# Altium schematic symbol library schmaticSMDv1.SchLib: 102 symbols (part 2 of 4)
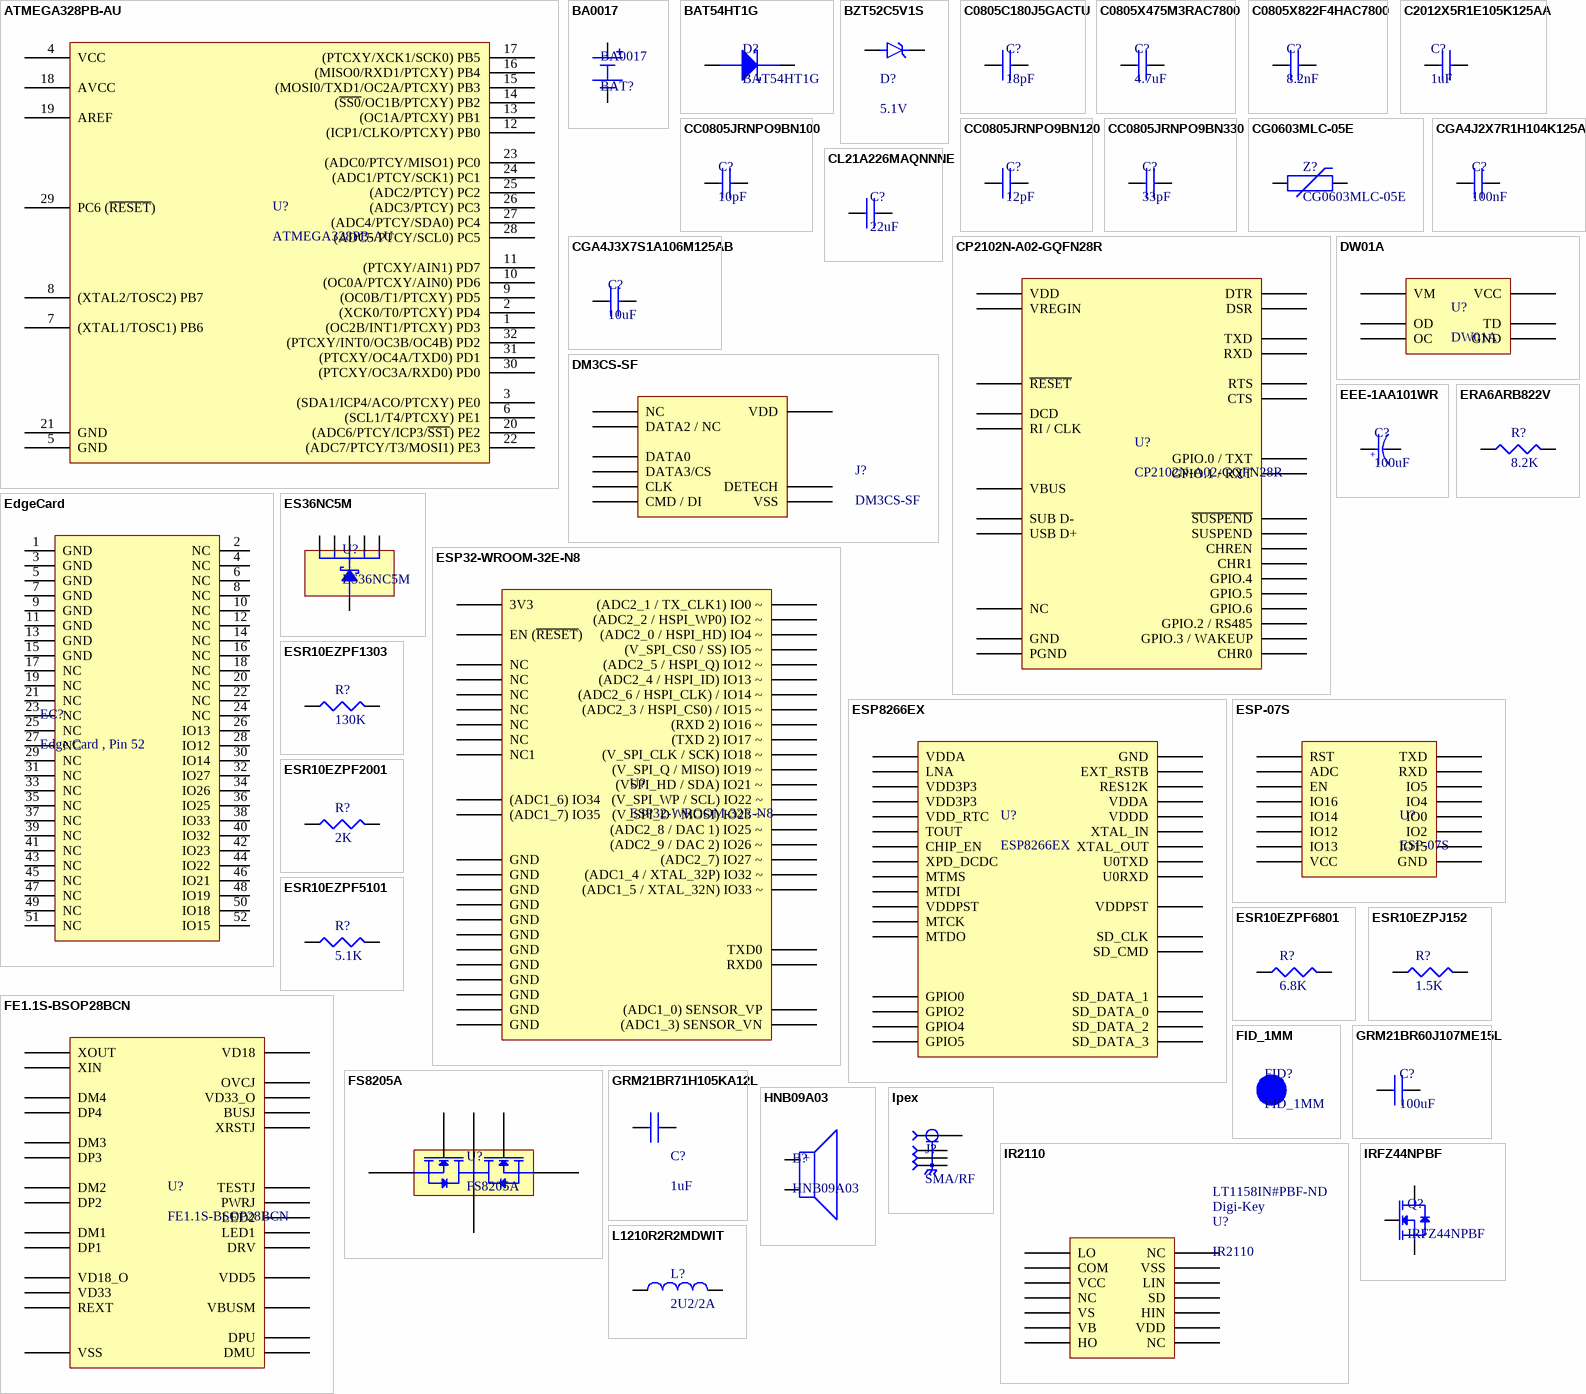
[diagram p4: symbols ATMEGA328PB-AU to L1210R2R2MDWIT]

## CC0805JRNPO9BN330
designator C?, comment 33pF
Cap Ceramic 33pF 50V C0G 5% SMD 0805 125C T/R; Manufacturer: Yageo; Manufacturer Part Number: CC0805JRNPO9BN330; RoHS: Yes; Category: Ceramic Capacitors; Stock 1: 150073; Pricing 1: 1=0.10000, 10=0.06900, 50=0.03760, 100=0.03060, 500=0.02188, 1000=0.01719 (USD); Mount: Surface Mount; Case/Package: 0805; Material: Ceramic; Case Code (Imperial): 0805; Case Code (Metric): 2012; Dielectric Material: Ceramic; Min Operating Temperature: -55°C; Max Operating Temperature: 125°C; Capacitance: 33pF; Tolerance: 5%; Dielectric: C0G; Voltage: 50V; Series: CC; Package Quantity: 1; Voltage Rating: 50V; Voltage Rating (DC): 50V; Packaging: Tape and Reel; Termination: SMD/SMT; Resistor Type: Ceramic; Length: 2mm; Width: 0.049inch; Height: 0.6mm; Depth: 1.25mm; Thickness: 0.024inch; Radiation Hardening: No; Lead Free: Lead Free; RoHS Compliant: Yes; ComponentLink1URL: https://datasheet.ciiva.com/8033/1443161-8033944.pdf?src-supplier=Element14; ComponentLink1Description: https://datasheet.ciiva.com/8033/1443161-8033944.pdf?src-supplier=Element14; ComponentLink2URL: https://datasheet.ciiva.com/8033/1443161-8033942.pdf?src-supplier=Element14; ComponentLink2Description: https://datasheet.ciiva.com/8033/1443161-8033942.pdf?src-supplier=Element14; ComponentLink3URL: https://datasheet.ciiva.com/144/mlccorderingcode-144779.pdf?src-supplier=Digi-Key; ComponentLink3Description: https://datasheet.ciiva.com/144/mlccorderingcode-144779.pdf?src-supplier=Digi-Key; ComponentLink4URL: https://datasheet.ciiva.com/144/mlccorderingcode-144778.pdf?src-supplier=Digi-Key; ComponentLink4Description: https://datasheet.ciiva.com/144/mlccorderingcode-144778.pdf?src-supplier=Digi-Key; ComponentLink5URL: https://datasheet.ciiva.com/144/mlccorderingcode-144780.pdf?src-supplier=Digi-Key; ComponentLink5Description: https://datasheet.ciiva.com/144/mlccorderingcode-144780.pdf?src-supplier=Digi-Key; ComponentLink6URL: https://datasheet.ciiva.com/11464/upy-gp-np0-16v-to-50v-8-11464747.pdf?src-supplier=Avnet; ComponentLink6Description: https://datasheet.ciiva.com/11464/upy-gp-np0-16v-to-50v-8-11464747.pdf?src-supplier=Avnet; ComponentLink7URL: https://datasheet.ciiva.com/29241/445349-da-01-en-kerko-chip-0805-np0-33pf-5proz-50v-g-29241975.pdf?src-supplier=Conrad; ComponentLink7Description: https://datasheet.ciiva.com/29241/445349-da-01-en-kerko-chip-0805-np0-33pf-5proz-50v-g-29241975.pdf?src-supplier=Conrad; Supplier 1: Digi-Key; Supplier Part Number 1: 311-1105-1-ND
footprint C0805
pins: 1, 2

## CG0603MLC-05E
designator Z?
ESD Suppressor Multilayer Varistor 5V Automotive 2-Pin Case 0603(1608Metric) T/R; Manufacturer: Bourns; Capacitance: 0.5pF; Voltage Rating (AC): 8V; Number of Channels: 1; Clamping Voltage: 20V; Current Rating: 50nA; Turn-On Delay Time: 1ns; Element Configuration: Single; Supplier 1: Digi-Key; Manufacturer Part Number: CG0603MLC-05E; RoHS: Yes; Category: Varistors; Stock 1: 69840; Pricing 1: 5000=0.08840, 10000=0.08060, 25000=0.07540, 50000=0.06916 (USD); Case/Package: 0603; Number of Pins: 2; Case Code (Imperial): 0603; Case Code (Metric): 1608; Contact Plating: Tin; Min Operating Temperature: -40°C; Max Operating Temperature: 85°C; Voltage Rating (DC): 5V; Operating Supply Voltage: 5V; Package Quantity: 1; Packaging: Tape and Reel; Termination: SMD/SMT; Voltage: 5V; Number of Circuits: 1; Max Voltage Rating (DC): 5V; Working Voltage: 5V; Leakage Current: 50nA; Series: MLC; Length: 1.6mm; Width: 0.8mm; Depth: 0.8mm; Thickness: 0.8mm; Radiation Hardening: No; REACH SVHC: No SVHC; RoHS Compliant: Yes; ComponentLink1URL: https://datasheet.ciiva.com/27747/1163231-27747629.pdf?src-supplier=Jameco; ComponentLink1Description: https://datasheet.ciiva.com/27747/1163231-27747629.pdf?src-supplier=Jameco; ComponentLink2URL: https://datasheet.ciiva.com/30070/mlc-30070503.pdf?src-supplier=Onlinecomponents.com; ComponentLink2Description: https://datasheet.ciiva.com/30070/mlc-30070503.pdf?src-supplier=Onlinecomponents.com; ComponentLink3URL: https://datasheet.ciiva.com/6991/mlc-6991832.pdf?src-supplier=Digi-Key; ComponentLink3Description: https://datasheet.ciiva.com/6991/mlc-6991832.pdf?src-supplier=Digi-Key; ComponentLink4URL: https://datasheet.ciiva.com/6991/mlc-6991834.pdf?src-supplier=Digi-Key; ComponentLink4Description: https://datasheet.ciiva.com/6991/mlc-6991834.pdf?src-supplier=Digi-Key; ComponentLink5URL: https://datasheet.ciiva.com/6991/mlc-6991836.pdf?src-supplier=Digi-Key; ComponentLink5Description: https://datasheet.ciiva.com/6991/mlc-6991836.pdf?src-supplier=Digi-Key; ComponentLink6URL: https://datasheet.ciiva.com/1278/1785244-1278701.pdf?src-supplier=Element14; ComponentLink6Description: https://datasheet.ciiva.com/1278/1785244-1278701.pdf?src-supplier=Element14; ComponentLink7URL: https://datasheet.ciiva.com/22696/1785244-22696318.pdf?src-supplier=Element14; ComponentLink7Description: https://datasheet.ciiva.com/22696/1785244-22696318.pdf?src-supplier=Element14; ComponentLink8URL: https://datasheet.ciiva.com/25958/mlc-25958222.pdf?src-supplier=Avnet+Europe; ComponentLink8Description: https://datasheet.ciiva.com/25958/mlc-25958222.pdf?src-supplier=Avnet+Europe; ComponentLink9URL: https://datasheet.ciiva.com/8084/mlc-8084047.pdf?src-supplier=Avnet; ComponentLink9Description: https://datasheet.ciiva.com/8084/mlc-8084047.pdf?src-supplier=Avnet; Supplier Part Number 1: CG0603MLC-05ETR-ND
footprint R0603
pins: 1, 2

## CGA4J2X7R1H104K125AM
designator C?, comment 100nF
Cap Ceramic 0.1uF 50V X7R 10% Pad SMD 0805 125°C Automotive T/R; Manufacturer: TDK; Manufacturer Part Number: CGA4J2X7R1H104K125AM; Supplier 1: Digi-Key; RoHS: Yes; Category: Ceramic Capacitors; Stock 1: 4940; Pricing 1: 1=0.20000, 10=0.14200, 50=0.08080, 100=0.06700, 500=0.04696, 1000=0.03888 (USD); Mount: Surface Mount; Case/Package: 0805; Case Code (Metric): 2012; Case Code (Imperial): 0805; Weight: 0.000194oz; Min Operating Temperature: -55°C; Max Operating Temperature: 125°C; Capacitance: 100nF; Voltage Rating: 50V; Tolerance: 10%; Packaging: Tape and Reel; Termination: SMD/SMT; Series: CGA; Package Quantity: 1; Voltage Rating (DC): 50V; Dielectric: X7R; Resistor Type: Ceramic; Features: Soft Termination; Length: 0.079inch; Width: 0.049inch; Height: 1.25mm; Thickness: 0.057inch; Depth: 1.25mm; Ratings: AEC-Q200; RoHS Compliant: Yes; ComponentLink1URL: http://components.arrow.com/part/dataview/0323_06888403?src-supplier=Arrow+Europe; ComponentLink1Description: http://components.arrow.com/part/dataview/0323_06888403?src-supplier=Arrow+Europe; ComponentLink2URL: https://product.tdk.com/info/en/catalog/datasheets/mlcc_automotive_openmode_en.pdf?src-supplier=Digi-Key; ComponentLink2Description: https://product.tdk.com/info/en/catalog/datasheets/mlcc_automotive_openmode_en.pdf?src-supplier=Digi-Key; ComponentLink3URL: https://product.tdk.com/info/en/documents/chara_sheet/CGA4J2X7R1H104K125AM.pdf?src-supplier=Digi-Key; ComponentLink3Description: https://product.tdk.com/info/en/documents/chara_sheet/CGA4J2X7R1H104K125AM.pdf?src-supplier=Digi-Key; ComponentLink4URL: http://components.arrow.com/part/dataview/57437351S460182N1165?src-supplier=Arrow+Electronics; ComponentLink4Description: http://components.arrow.com/part/dataview/57437351S460182N1165?src-supplier=Arrow+Electronics; Supplier Part Number 1: 445-6958-1-ND
footprint C0805
pins: 1, 2

## CGA4J3X7S1A106M125AB
designator C?, comment 10uF
Cap Ceramic 10uF 10V X7S 20% Pad SMD 0805 125°C Low ESR Automotive T/R; Manufacturer: TDK; Manufacturer Part Number: CGA4J3X7S1A106M125AB; RoHS: Yes; Category: Ceramic Capacitors; Stock 1: 13960; Pricing 1: 1=0.41000, 10=0.29000, 50=0.21920, 100=0.19090, 500=0.14140, 1000=0.12019 (USD); Mount: Surface Mount; Case/Package: 0805; Case Code (Metric): 2012; Case Code (Imperial): 0805; Weight: 0.000194oz; Min Operating Temperature: -55°C; Max Operating Temperature: 125°C; Packaging: Tape and Reel; Capacitance: 10uF; Voltage Rating: 10V; Tolerance: 20%; Dielectric: X7S; Termination: SMD/SMT; Voltage Rating (DC): 10V; Package Quantity: 2000; Length: 0.079inch; Width: 1.25mm; Height: 1.25mm; Thickness: 0.057inch; Ratings: AEC-Q200; RoHS Compliant: Yes; ComponentLink1URL: http://www.mouser.com/ds/2/400/lcc_automotive_general_en-843974.pdf?src-supplier=Mouser; ComponentLink1Description: http://www.mouser.com/ds/2/400/lcc_automotive_general_en-843974.pdf?src-supplier=Mouser; ComponentLink2URL: https://product.tdk.com/info/en/documents/chara_sheet/CGA4J3X7S1A106M125AB.pdf?src-supplier=Digi-Key; ComponentLink2Description: https://product.tdk.com/info/en/documents/chara_sheet/CGA4J3X7S1A106M125AB.pdf?src-supplier=Digi-Key; Supplier 1: Digi-Key; Supplier Part Number 1: 445-16115-1-ND
footprint C0805
pins: 1, 2

## CL21A226MAQNNNE
designator C?, comment 22uF
CAP CER 22UF 25V X5R 0805; Manufacturer: Samsung; Manufacturer Part Number: CL21A226MAQNNNE; Tolerance: 20%; RoHS: Yes; Category: Ceramic Capacitors; Stock 1: 1815620; Pricing 1: 20=0.02360, 200=0.01840, 600=0.01610, 2000=0.01440, 10000=0.01370, 20000=0.01320 (USD); Mount: Surface Mount; Case/Package: 0805; Case Code (Metric): 2012; Case Code (Imperial): 0805; Contact Plating: Tin; Min Operating Temperature: -55°C; Max Operating Temperature: 85°C; Package Quantity: 1; Packaging: Tape and Reel; Capacitance: 22uF; Voltage Rating: 25V; Dielectric: X5R; Termination: Wraparound; Series: CL; Construction: Flat; Length: 2mm; Width: 0.049inch; Thickness: 0.055inch; Depth: 1.25mm; RoHS Compliant: Yes; ComponentLink1URL: https://datasheet.ciiva.com/25724/cl21a226maqnnne-25724468.pdf?src-supplier=Digi-Key; ComponentLink1Description: https://datasheet.ciiva.com/25724/cl21a226maqnnne-25724468.pdf?src-supplier=Digi-Key; Supplier 1: LCSC; Supplier Part Number 1: C45783
footprint C0805
pins: 1, 2

## CP2102N-A02-GQFN28R
designator U?
Full Speed USB to UART Bridge USB 2.0 3.3V T/R Automotive 28-Pin QFN EP; Manufacturer: Silicon Labs; Manufacturer Part Number: CP2102N-A02-GQFN28R; RoHS: Yes; Category: USB Interface ICs; Pricing 1: 1=2.27000, 10=2.27000, 50=2.27000, 100=2.27000, 1000=2.27000, 10000=2.27000 (USD); Supplier 1: Mouser; Supplier Part Number 1: 634-CP2102NA02QFN28R
footprint WFQFN-28
pins: 1 DCD, 2 RI / CLK, 3 GND, 4 USB D+, 5 SUB D-, 6 VDD, 7 VREGIN, 8 VBUS, 9 ~{RESET}, 10 NC, 11 ~{SUSPEND}, 12 SUSPEND, 13 CHREN, 14 CHR1, 15 CHR0, 16 GPIO.3 / WAKEUP, 17 GPIO.2 / RS485, 18 GPIO.1 / RXT, 19 GPIO.0 / TXT, 20 GPIO.6, 21 GPIO.5, 22 GPIO.4, 23 CTS, 24 RTS, 25 RXD, 26 TXD, 27 DSR, 28 DTR, 29 PGND

## DM3CS-SF
designator J?
Connector, Memory, Micro Sd, Hinged Rohs Compliant: Yes; Manufacturer: Hirose; Supplier 1: RSComponents; Manufacturer Part Number: DM3CS-SF; RoHS: Yes; Category: Memory Connectors; Stock 1: 50; Pricing 1: 5=1.36800, 125=1.23200, 375=0.98800, 1000=0.68800, 2000=0.50800 (GBP); ComponentLink1URL: https://datasheet.ciiva.com/683/e60900232-683360.pdf?src-supplier=Digi-Key; ComponentLink1Description: https://datasheet.ciiva.com/683/e60900232-683360.pdf?src-supplier=Digi-Key; ComponentLink2URL: https://datasheet.ciiva.com/16434/e60900232-16434058.pdf?src-supplier=Future+Electronics; ComponentLink2Description: https://datasheet.ciiva.com/16434/e60900232-16434058.pdf?src-supplier=Future+Electronics; ComponentLink3URL: https://datasheet.ciiva.com/4581/e60900232-38395-4581034.pdf?src-supplier=Mouser; ComponentLink3Description: https://datasheet.ciiva.com/4581/e60900232-38395-4581034.pdf?src-supplier=Mouser; ComponentLink4URL: https://datasheet.ciiva.com/7651/1465328-7651895.pdf?src-supplier=Element14; ComponentLink4Description: https://datasheet.ciiva.com/7651/1465328-7651895.pdf?src-supplier=Element14; ComponentLink5URL: https://datasheet.ciiva.com/3122/e60900232-3122536.pdf?src-supplier=Avnet; ComponentLink5Description: https://datasheet.ciiva.com/3122/e60900232-3122536.pdf?src-supplier=Avnet; ComponentLink6URL: https://datasheet.ciiva.com/683/e60900232-683359.pdf?src-supplier=Digi-Key; ComponentLink6Description: https://datasheet.ciiva.com/683/e60900232-683359.pdf?src-supplier=Digi-Key; ComponentLink7URL: https://datasheet.ciiva.com/683/e60900232-683361.pdf?src-supplier=Digi-Key; ComponentLink7Description: https://datasheet.ciiva.com/683/e60900232-683361.pdf?src-supplier=Digi-Key; Supplier Part Number 1: 7726787
footprint GCT_MEM2051-00-195-00-A
pins: 1 DATA2 / NC, 2 DATA3/CS, 3 CMD / DI, 4 VDD, 5 CLK, 6 VSS, 7 DATA0, 8 NC, 9 DETECH

## DW01A
designator U?
SOT-23-6L Battery Management ICs ROHS; Manufacturer: TF; Manufacturer Part Number: DW01A; RoHS: No; Category: Uncategorized; Stock 1: 1180; Pricing 1: 20=0.03790, 200=0.03100, 600=0.02760, 3000=0.02500, 9000=0.02290, 21000=0.02190 (USD); Supplier 1: LCSC; Supplier Part Number 1: C436931
footprint SOT23-6
pins: 1 OD, 2 VM, 3 OC, 4 TD, 5 VCC, 6 GND

## EdgeCard
designator EC?, comment Edge Card , Pin 52
footprint Edge Connector
pins: 1 GND, 2 NC, 3 GND, 4 NC, 5 GND, 6 NC, 7 GND, 8 NC, 9 GND, 10 NC, 11 GND, 12 NC, 13 GND, 14 NC, 15 GND, 16 NC, 17 NC, 18 NC, 19 NC, 20 NC, 21 NC, 22 NC, 23 NC, 24 NC, 25 NC, 26 IO13, 27 NC, 28 IO12, 29 NC, 30 IO14, 31 NC, 32 IO27, 33 NC, 34 IO26, 35 NC, 36 IO25, 37 NC, 38 IO33, 39 NC, 40 IO32, 41 NC, 42 IO23, 43 NC, 44 IO22, 45 NC, 46 IO21, 47 NC, 48 IO19, 49 NC, 50 IO18, 51 NC, 52 IO15

## EEE-1AA101WR
designator C?, comment 100uF
Cap Aluminum 100uF 10V 20% (5 X 5.4mm) SMD 50mA 1000 hr 85°C T/R; Manufacturer: Panasonic; Manufacturer Part Number: EEE-1AA101WR; Life (Hours): 1000Hour; Supplier 1: RSComponents; RoHS: Yes; Category: Aluminum Electrolytic Capacitors; Stock 1: 1; Pricing 1: 1000=0.07800, 3000=0.07400 (USD); Mount: Surface Mount,PCB; Case/Package: Radial; Contact Plating: Tin; Min Operating Temperature: -40°C; Max Operating Temperature: 85°C; Capacitance: 100uF; Tolerance: 20%; Ripple Current: 50mA; Voltage Rating: 10V; Packaging: Tape and Reel; Package Quantity: 1; Voltage Rating (DC): 10V; Termination: SMD/SMT; Ripple Current (AC): 50mA; Series: S; Construction: Cylindrical; Diameter: 5mm; Length: 5.5mm; Height: 5.4mm; Height - Seated (Max): 0.213inch; Radiation Hardening: No; Lead Free: Lead Free; RoHS Compliant: Yes; REACH SVHC: Unknown; ComponentLink1URL: https://datasheet.ciiva.com/26945/getdatasheetpartid-169213-26945071.pdf?src-supplier=Verical; ComponentLink1Description: https://datasheet.ciiva.com/26945/getdatasheetpartid-169213-26945071.pdf?src-supplier=Verical; ComponentLink2URL: https://datasheet.ciiva.com/24027/aba0000ce2-40801-24027541.pdf?src-supplier=Mouser; ComponentLink2Description: https://datasheet.ciiva.com/24027/aba0000ce2-40801-24027541.pdf?src-supplier=Mouser; ComponentLink3URL: https://datasheet.ciiva.com/14598/70255710-14598233.pdf?src-supplier=Allied+Electronics; ComponentLink3Description: https://datasheet.ciiva.com/14598/70255710-14598233.pdf?src-supplier=Allied+Electronics; ComponentLink4URL: https://datasheet.ciiva.com/14605/70255710-14605689.pdf?src-supplier=Allied+Electronics; ComponentLink4Description: https://datasheet.ciiva.com/14605/70255710-14605689.pdf?src-supplier=Allied+Electronics; ComponentLink5URL: https://datasheet.ciiva.com/11673/aba0000ce2-11673882.pdf?src-supplier=Avnet; ComponentLink5Description: https://datasheet.ciiva.com/11673/aba0000ce2-11673882.pdf?src-supplier=Avnet; ComponentLink6URL: https://datasheet.ciiva.com/16427/aba0000ce2-16427544.pdf?src-supplier=Future+Electronics; ComponentLink6Description: https://datasheet.ciiva.com/16427/aba0000ce2-16427544.pdf?src-supplier=Future+Electronics; ComponentLink7URL: https://datasheet.ciiva.com/2983/aba0000ce2-2983906.pdf?src-supplier=Avnet; ComponentLink7Description: https://datasheet.ciiva.com/2983/aba0000ce2-2983906.pdf?src-supplier=Avnet; ComponentLink8URL: https://datasheet.ciiva.com/30075/11aba0000ce2-30075303.pdf?src-supplier=Onlinecomponents.com; ComponentLink8Description: https://datasheet.ciiva.com/30075/11aba0000ce2-30075303.pdf?src-supplier=Onlinecomponents.com; Supplier Part Number 1: 1763738
footprint C_ALU_C_SIZE
pins: 1, 2
text: +

## ERA6ARB822V
designator R?, comment 8.2K
Res Thin Film 0805 8.2K Ohm 0.1% 1/8W ±10ppm/°C Molded SMD SMD Punched Carrier T/R; Manufacturer: Panasonic; Manufacturer Part Number: ERA6ARB822V; Resistance: 8.2kR; Power Rating: 125mW; Voltage Rating: 200V; RoHS: Yes; Category: Chip SMD Resistors; Stock 1: 9572; Pricing 1: 1=0.70000, 10=0.58400, 100=0.39190, 1000=0.22928, 2500=0.22178 (USD); Mount: Surface Mount; Case/Package: 0805; Number of Pins: 2; Case Code (Metric): 2012; Case Code (Imperial): 0805; Contact Plating: Tin; Min Operating Temperature: -55°C; Max Operating Temperature: 155°C; Tolerance: 0.1%; Packaging: Tape and Reel; Package Quantity: 1; Resistor Type: Thin Film,Metal Film; Number of Terminations: 2; Termination: SMD/SMT; Temperature Coefficient: 10ppm/°C; Max Power Dissipation: 125mW; Voltage Rating (DC): 200V; Features: Automotive AEC-Q200; Series: ERA-6A; Construction: Rectangular; Resistance Tolerance: 0.1%; Length: 2mm; Width: 0.049inch; Height: 0.024inch; Depth: 1.25mm; Radiation Hardening: No; REACH SVHC: No SVHC; Military Standard: Not; Lead Free: Lead Free; RoHS Compliant: Yes; ComponentLink1URL: https://datasheet.ciiva.com/48529/era-eng-tds-48529958.pdf?src-supplier=Distrelec; ComponentLink1Description: https://datasheet.ciiva.com/48529/era-eng-tds-48529958.pdf?src-supplier=Distrelec; ComponentLink2URL: https://datasheet.ciiva.com/24050/aoa0000ce26-197354-24050823.pdf?src-supplier=Mouser; ComponentLink2Description: https://datasheet.ciiva.com/24050/aoa0000ce26-197354-24050823.pdf?src-supplier=Mouser; ComponentLink3URL: https://datasheet.ciiva.com/9194/aoa0000ce26-9194648.pdf?src-supplier=Avnet; ComponentLink3Description: https://datasheet.ciiva.com/9194/aoa0000ce26-9194648.pdf?src-supplier=Avnet; Supplier 1: Digi-Key; Supplier Part Number 1: 10-ERA-6ARB822VCT-ND
footprint R0805
pins: 1, 2

## ES36NC5M
designator U?
SOT-363 ESD Protection Devices ROHS; Manufacturer: JESTEK; Manufacturer Part Number: ES36NC5M; RoHS: No; Category: Uncategorized; Stock 1: 92260; Pricing 1: 10=0.03520, 100=0.02820, 300=0.02470, 3000=0.02200, 6000=0.01990, 9000=0.01890 (USD); Supplier 1: LCSC; Supplier Part Number 1: C2960985
footprint SOT-363
pins: 1, 2, 3, 4, 5, 6

## ESP32-WROOM-32E-N8
designator U?
2.4 GHz WiFi + Bluetooth ® + Bluetooth LE module / Built around ESP32 series of SoCs, Xtensa® dualcore 32bit LX6 microprocessor / 4/8/16 MB flash available / 26 GPIOs, rich set of peripherals / Onboard PCB antenna or external antenna connector; Manufacturer: Espressif Systems; Manufacturer Part Number: ESP32-WROOM-32E-N8; RoHS: No; Category: Uncategorized; Stock 1: 16701; Pricing 1: 1=3.30000 (USD); Supplier 1: Digi-Key; Supplier Part Number 1: 1965-ESP32-WROOM-32E-N8CT-ND
footprint XCVR_ESP32-WROOM-32E_(16MB)
pins: 1 GND (power), 2 3V3 (power), 3 EN (~{RESET}), 4 (ADC1_0) SENSOR_VP, 5 (ADC1_3) SENSOR_VN, 6 (ADC1_6) IO34, 7 (ADC1_7) IO35, 8 (ADC1_4 / XTAL_32P) IO32 ~, 9 (ADC1_5 / XTAL_32N) IO33 ~, 10 (ADC2_8 / DAC 1) IO25 ~, 11 (ADC2_9 / DAC 2) IO26 ~, 12 (ADC2_7) IO27 ~, 13 (ADC2_6 / HSPI_CLK) / IO14 ~, 14 (ADC2_5 / HSPI_Q) IO12 ~, 15 GND (power), 16 (ADC2_4 / HSPI_ID) IO13 ~, 17 NC, 18 NC, 19 NC, 20 NC, 21 NC, 22 NC, 23 (ADC2_3 / HSPI_CS0) / IO15 ~, 24 (ADC2_2 / HSPI_WP0) IO2 ~, 25 (ADC2_1 / TX_CLK1) IO0 ~, 26 (ADC2_0 / HSPI_HD) IO4 ~, 27 (RXD 2) IO16 ~, 28 (TXD 2) IO17 ~, 29 (V_SPI_CS0 / SS) IO5 ~, 30 (V_SPI_CLK / SCK) IO18 ~, 31 (V_SPI_Q / MISO) IO19 ~, 32 NC1, 33 (VSPI_HD / SDA) IO21 ~, 34 RXD0, 35 TXD0, 36 (V_SPI_WP / SCL) IO22 ~, 37 (V_SPI_D / MOSI) IO23 ~, 38 GND (power), 39_1 GND (power), 39_2 GND (power), 39_3 GND (power), 39_4 GND (power), 39_5 GND (power), 39_6 GND (power), 39_7 GND (power), 39_8 GND (power), 39_9 GND (power)

## ESP8266EX
designator U?
IC ESP8266, SDIO 2.0, SPI, UART, QFN32, RF switch, balun, 24dBm PA, DCXO, PMU/Espresiff; Manufacturer: Espressif Systems; Frequency: 2.4GHz; Data Rate: 54Mbps; Sensitivity: -91dBm; Current - Transmitting: 170mA; Interface: I2C,SPI,UART; Number of GPIO: 8; Current - Receiving: 56mA; Supplier 1: Digi-Key; Manufacturer Part Number: ESP8266EX; RoHS: No; Category: RF Receivers, Transceivers; Stock 1: 13273; Pricing 1: 1=1.60000 (USD); Packaging: Cut Tape; ComponentLink1URL: https://datasheet.ciiva.com/70029/esp8266-quick-start-guide-en-70029745.pdf?src-supplier=Digi-Key; ComponentLink1Description: https://datasheet.ciiva.com/70029/esp8266-quick-start-guide-en-70029745.pdf?src-supplier=Digi-Key; Supplier Part Number 1: 1904-1001-1-ND
footprint QFN32
pins: 1 VDDA, 2 LNA, 3 VDD3P3, 4 VDD3P3, 5 VDD_RTC, 6 TOUT, 7 CHIP_EN, 8 XPD_DCDC, 9 MTMS, 10 MTDI, 11 VDDPST, 12 MTCK, 13 MTDO, 14 GPIO2, 15 GPIO0, 16 GPIO4, 17 VDDPST, 18 SD_DATA_2, 19 SD_DATA_3, 20 SD_CMD, 21 SD_CLK, 22 SD_DATA_0, 23 SD_DATA_1, 24 GPIO5, 25 U0RXD, 26 U0TXD, 27 XTAL_OUT, 28 XTAL_IN, 29 VDDD, 30 VDDA, 31 RES12K, 32 EXT_RSTB, 33 GND

## ESP-07S
designator U?
Wifi Module, 2.484Ghz, 9 I/o Port Rohs Compliant: Yes; Manufacturer: RF Solutions; Manufacturer Part Number: ESP-12S; Interface: I2C,SPI,UART; Sensitivity: -90dBm; Data Rate: 54Mbps; RoHS: No; Category: RF Receivers, Transceivers; Frequency: 2.484GHz; ComponentLink1URL: http://www.farnell.com/datasheets/2575856.pdf?src-supplier=Farnell; ComponentLink1Description: http://www.farnell.com/datasheets/2575856.pdf?src-supplier=Farnell; ComponentLink2URL: https://www.rfsolutions.co.uk/downloads/1513856197DS-ESP-12S.pdf?src-supplier=Digi-Key; ComponentLink2Description: https://www.rfsolutions.co.uk/downloads/1513856197DS-ESP-12S.pdf?src-supplier=Digi-Key; Supplier 1: Digi-Key; Supplier Part Number 1: ESP-12SRF-ND
footprint ESP-07S
pins: 1 RST, 2 ADC, 3 EN, 4 IO16, 5 IO14, 6 IO12, 7 IO13, 8 VCC, 9 GND, 10 IO15, 11 IO2, 12 IO0, 13 IO4, 14 IO5, 15 RXD, 16 TXD

## ESR10EZPF1303
designator R?, comment 130K
Res Thick Film 0805 130KOhm 1% 2/5W ±100ppm/°C Molded SMD Paper T/R; Manufacturer: Rohm; Manufacturer Part Number: ESR10EZPF1303; Resistance: 130kR; Max Power Dissipation: 400mW; RoHS: Yes; Category: Chip SMD Resistors; Stock 1: 63; Pricing 1: 1=0.21000, 10=0.17500, 100=0.06840, 1000=0.02862, 2500=0.02624 (USD); Case/Package: 0805; Case Code (Metric): 2012; Case Code (Imperial): 0805; Min Operating Temperature: -55°C; Max Operating Temperature: 155°C; Tolerance: 1%; Packaging: Tape and Reel; Resistor Type: Thick Film; Temperature Coefficient: 100ppm/°C; Package Quantity: 1; Number of Terminations: 2; Features: Automotive AEC-Q200; Series: ESR; Length: 0.079inch; Width: 0.049inch; Height: 0.026inch; RoHS Compliant: Yes; ComponentLink1URL: https://datasheet.ciiva.com/2470/esr-2470099.pdf?src-supplier=Digi-Key; ComponentLink1Description: https://datasheet.ciiva.com/2470/esr-2470099.pdf?src-supplier=Digi-Key; ComponentLink2URL: https://datasheet.ciiva.com/2470/esr-2470100.pdf?src-supplier=Digi-Key; ComponentLink2Description: https://datasheet.ciiva.com/2470/esr-2470100.pdf?src-supplier=Digi-Key; ComponentLink3URL: https://datasheet.ciiva.com/2470/esr-2470101.pdf?src-supplier=Digi-Key; ComponentLink3Description: https://datasheet.ciiva.com/2470/esr-2470101.pdf?src-supplier=Digi-Key; Supplier 1: Digi-Key; Supplier Part Number 1: RHM130KAECT-ND
footprint R0805
pins: 1, 2

## ESR10EZPF2001
designator R?, comment 2K
Res Thick Film 0805 2K Ohm 1% 2/5W ±100ppm/°C Molded SMD Paper T/R; Manufacturer: Rohm; Manufacturer Part Number: ESR10EZPF2001; Resistance: 2kR; Power Rating: 400mW; RoHS: Yes; Category: Chip SMD Resistors; Stock 1: 49054; Pricing 1: 1=0.21000, 10=0.17500, 100=0.06840, 1000=0.02862, 2500=0.02624 (USD); Case/Package: 0805; Case Code (Metric): 2012; Case Code (Imperial): 0805; Size Code: 0805; Tolerance: 1%; Packaging: Tape and Reel; Resistor Type: Thick Film; Temperature Coefficient: 100ppm/°C; Package Quantity: 5000; Number of Terminations: 2; Max Power Dissipation: 400mW; Series: ESR10; Length: 0.079inch; Width: 0.049inch; Height: 0.026inch; Lead Free: Lead Free; RoHS Compliant: Yes; ComponentLink1URL: http://www1.futureelectronics.com/doc/ROHM%20SEMICONDUCTOR/ESR10EZPD.pdf?src-supplier=Future+Electronics; ComponentLink1Description: http://www1.futureelectronics.com/doc/ROHM%20SEMICONDUCTOR/ESR10EZPD.pdf?src-supplier=Future+Electronics; ComponentLink2URL: https://www.rohm.com/datasheet/ESR01MZPF/esr-e?src-supplier=Digi-Key; ComponentLink2Description: https://www.rohm.com/datasheet/ESR01MZPF/esr-e?src-supplier=Digi-Key; ComponentLink3URL: http://www.rohm.com/web/global/datasheet/ESR01MZPF/esr-e?src-supplier=Digi-Key; ComponentLink3Description: http://www.rohm.com/web/global/datasheet/ESR01MZPF/esr-e?src-supplier=Digi-Key; ComponentLink4URL: http://rohmfs.rohm.com/en/products/databook/datasheet/passive/resistor/chip_resistor/esr.pdf?src-supplier=Avnet; ComponentLink4Description: http://rohmfs.rohm.com/en/products/databook/datasheet/passive/resistor/chip_resistor/esr.pdf?src-supplier=Avnet; Supplier 1: Digi-Key; Supplier Part Number 1: RHM2.00KAECT-ND
footprint R0805
pins: 1, 2

## ESR10EZPF5101
designator R?, comment 5.1K
Res Thick Film 0805 5.1K Ohm 1% 0.4W ±100ppm/C Pad SMD Automotive T/R; Manufacturer: Rohm; Manufacturer Part Number: ESR10EZPF5101; Resistance: 5.1kR; Temperature Coefficient: 100ppm/°C; Max Power Dissipation: 400mW; RoHS: Yes; Category: Chip SMD Resistors; Stock 1: 46623; Pricing 1: 1=0.21000, 10=0.17500, 100=0.06840, 1000=0.02862, 2500=0.02624 (USD); Case/Package: 0805; Case Code (Metric): 2012; Case Code (Imperial): 0805; Min Operating Temperature: -55°C; Max Operating Temperature: 155°C; Tolerance: 1%; Packaging: Tape and Reel; Resistor Type: Thick Film; Package Quantity: 1; Number of Terminations: 2; Features: Automotive AEC-Q200; Series: ESR; Length: 0.079inch; Width: 0.049inch; Height: 0.026inch; Lead Free: Lead Free; RoHS Compliant: Yes; ComponentLink1URL: https://datasheet.ciiva.com/2470/esr-2470170.pdf?src-supplier=Digi-Key; ComponentLink1Description: https://datasheet.ciiva.com/2470/esr-2470170.pdf?src-supplier=Digi-Key; ComponentLink2URL: https://datasheet.ciiva.com/2470/esr-2470168.pdf?src-supplier=Digi-Key; ComponentLink2Description: https://datasheet.ciiva.com/2470/esr-2470168.pdf?src-supplier=Digi-Key; ComponentLink3URL: https://datasheet.ciiva.com/2470/esr-2470169.pdf?src-supplier=Digi-Key; ComponentLink3Description: https://datasheet.ciiva.com/2470/esr-2470169.pdf?src-supplier=Digi-Key; Supplier 1: Digi-Key; Supplier Part Number 1: RHM5.10KAECT-ND
footprint R0805
pins: 1, 2

## ESR10EZPF6801
designator R?, comment 6.8K
Res Thick Film 0805 6.8K Ohm 1% 0.4W ±100ppm/°C Pad SMD Automotive T/R; Manufacturer: Rohm; Manufacturer Part Number: ESR10EZPF6801; Resistance: 6.8kR; Max Power Dissipation: 400mW; RoHS: Yes; Category: Chip SMD Resistors; Stock 1: 498549; Pricing 1: 1=0.21000, 10=0.17500, 100=0.06840, 1000=0.02862, 2500=0.02624 (USD); Case/Package: 0805; Case Code (Imperial): 0805; Case Code (Metric): 2012; Min Operating Temperature: -55°C; Max Operating Temperature: 155°C; Resistor Type: Thick Film; Packaging: Tape and Reel; Tolerance: 1%; Temperature Coefficient: 100ppm/°C; Features: Automotive AEC-Q200; Number of Terminations: 2; Series: ESR; RoHS Compliant: Yes; ComponentLink1URL: https://www.rohm.com/datasheet/ESR01MZPF/esr-e?src-supplier=Digi-Key; ComponentLink1Description: https://www.rohm.com/datasheet/ESR01MZPF/esr-e?src-supplier=Digi-Key; ComponentLink2URL: http://rohmfs.rohm.com/en/products/databook/datasheet/passive/resistor/chip_resistor/esr.pdf?src-supplier=Avnet; ComponentLink2Description: http://rohmfs.rohm.com/en/products/databook/datasheet/passive/resistor/chip_resistor/esr.pdf?src-supplier=Avnet; Supplier 1: Digi-Key; Supplier Part Number 1: RHM6.80KAECT-ND
footprint R0805
pins: 1, 2

## ESR10EZPJ152
designator R?, comment 1.5K
Res Thick Film 0805 1.5K Ohm 5% 2/5W ±200ppm/°C Molded SMD SMD Paper T/R; Manufacturer: Rohm; Manufacturer Part Number: ESR10EZPJ152; Resistance: 1.5kR; Max Power Dissipation: 400mW; RoHS: Yes; Category: Chip SMD Resistors; Stock 1: 20369; Pricing 1: 1=0.14000, 10=0.12400, 100=0.04770, 1000=0.02099, 2500=0.01813 (USD); Case/Package: 0805; Contact Plating: Tin; Case Code (Metric): 2012; Case Code (Imperial): 0805; Min Operating Temperature: -55°C; Max Operating Temperature: 155°C; Tolerance: 5%; Packaging: Tape and Reel; Resistor Type: Thick Film; Temperature Coefficient: 200ppm/°C; Package Quantity: 5000; Number of Terminations: 2; Series: ESR10; Length: 0.079inch; Width: 0.049inch; Height: 0.026inch; Lead Free: Lead Free; RoHS Compliant: Yes; ComponentLink1URL: http://rohmfs.rohm.com/en/products/databook/datasheet/passive/resistor/chip_resistor/esr.pdf?src-supplier=Avnet; ComponentLink1Description: http://rohmfs.rohm.com/en/products/databook/datasheet/passive/resistor/chip_resistor/esr.pdf?src-supplier=Avnet; ComponentLink2URL: https://www.rohm.com/datasheet/ESR01MZPF/esr-e?src-supplier=Digi-Key; ComponentLink2Description: https://www.rohm.com/datasheet/ESR01MZPF/esr-e?src-supplier=Digi-Key; ComponentLink3URL: http://www.rohm.com/web/global/datasheet/ESR01MZPF/esr-e?src-supplier=Digi-Key; ComponentLink3Description: http://www.rohm.com/web/global/datasheet/ESR01MZPF/esr-e?src-supplier=Digi-Key; Supplier 1: Digi-Key; Supplier Part Number 1: RHM1.5KKCT-ND
footprint R0805
pins: 1, 2

## FE1.1S-BSOP28BCN
designator U?
The FE1.1s is a highly integrated, high quality, / high performance, low power consumption, yet / low cost solution for USB 2.0 High Speed 4-Port Hub.; ComponentLink1Description: New link; ComponentLink1URL: *; ComponentLink2Description: New link 1; ComponentLink2URL: *
footprint TSSOP28
pins: 1 VSS, 2 XOUT, 3 XIN, 4 DM4, 5 DP4, 6 DM3, 7 DP3, 8 DM2, 9 DP2, 10 DM1, 11 DP1, 12 VD18_O, 13 VD33, 14 REXT, 15 DMU, 16 DPU, 17 XRSTJ, 18 VBUSM, 19 BUSJ, 20 VDD5, 21 VD33_O, 22 DRV, 23 LED1, 24 LED2, 25 PWRJ, 26 OVCJ, 27 TESTJ, 28 VD18

## FID_1MM
designator FID?  (no BOM)
Fisushal 1MM
footprint FID_x_420

## FS8205A
designator U?
输入电容(Ciss@Vds)：466pF 10V 反向传输电容(Crss@Vds)：58pF 10V 功率(Pd)：1.5W 阈值电压(Vgs(th)@Id)：700mV 250uA 导通电阻(RDS(on)@Vgs,Id)：19.5mΩ 4.5V,3A 栅极电荷(Qg@Vgs)：5.7nC 10V 漏源电压(Vdss)：20V 连续漏极电流(Id)：6A 工作温度(最大值)：+150℃ (Tj) 工作温度(最小值)：-55℃ (Tj) 类型：2个N沟道; Manufacturer: Tech Public; Manufacturer Part Number: FS8205A; RoHS: No; Stock 1: 20790; Pricing 1: 10=0.06550, 100=0.05310, 300=0.04690, 3000=0.04230, 6000=0.03860, 9000=0.03670 (USD); Supplier 1: LCSC; Supplier Part Number 1: C2830320
footprint SOT23-6
pins: 1 S1, 2 D1/D2, 3 S2, 4 G2, 5 D1/D2, 6 G1

## GRM21BR60J107ME15L
designator C?, comment 100uF
0805 100 uF 6.3 V ±20% Tolerance X5R Multilayer Ceramic Chip Capacitor; Manufacturer: Murata; Manufacturer Part Number: GRM21BR60J107ME15L; Voltage Rating: 6.3V; RoHS: Yes; Category: Ceramic Capacitors; Stock 1: 830718; Pricing 1: 1=1.15000, 10=0.90900, 50=0.78800, 100=0.68180, 500=0.51516, 1000=0.45456 (USD); Mount: Surface Mount; Case/Package: 0805; Case Code (Metric): 2012; Case Code (Imperial): 0805; Min Operating Temperature: -55°C; Max Operating Temperature: 85°C; Packaging: Cut Tape; Dielectric: X5R; Tolerance: 20%; Voltage Rating (DC): 6.3V; Capacitance: 100uF; Series: GRM; Length: 0.079inch; Width: 0.049inch; Thickness: 0.057inch; Reach SVHC Compliant: Yes; Lead Free: Lead Free; RoHS Compliant: Yes; ComponentLink1URL: http://www.farnell.com/datasheets/1957830.pdf?src-supplier=Farnell; ComponentLink1Description: http://www.farnell.com/datasheets/1957830.pdf?src-supplier=Farnell; ComponentLink2URL: http://www.farnell.com/datasheets/1957830.pdf?src-supplier=Element14; ComponentLink2Description: http://www.farnell.com/datasheets/1957830.pdf?src-supplier=Element14; ComponentLink3URL: https://search.murata.co.jp/Ceramy/image/img/A01X/G101/ENG/GRM21BR60J107ME15-01.pdf?src-supplier=Digi-Key; ComponentLink3Description: https://search.murata.co.jp/Ceramy/image/img/A01X/G101/ENG/GRM21BR60J107ME15-01.pdf?src-supplier=Digi-Key; ComponentLink4URL: http://www.farnell.com/datasheets/1957830.pdf?src-supplier=Newark; ComponentLink4Description: http://www.farnell.com/datasheets/1957830.pdf?src-supplier=Newark; Supplier 1: Digi-Key; Supplier Part Number 1: 490-13981-1-ND
footprint C0805
pins: 1, 2

## GRM21BR71H105KA12L
designator C?, comment 1uF
0805 1 uF 50 V ±10% Tolerance X7R Multilayer Ceramic Chip Capacitor; Manufacturer: Murata; Manufacturer Part Number: GRM21BR71H105KA12L; Voltage Rating: 50V; Supplier 1: Newark; RoHS: Yes; Category: Ceramic Capacitors; Pricing 1: 1=0.72300, 25=0.64900, 50=0.59100, 100=0.52300, 250=0.46500, 500=0.39900, 1000=0.35100, 2500=0.27800, 3000=0.27800 (USD); Mount: Surface Mount; Case/Package: 0805; Number of Pins: 2; Case Code (Metric): 2012; Case Code (Imperial): 0805; Material: Ceramic; Min Operating Temperature: -55°C; Max Operating Temperature: 125°C; Capacitance: 1uF; Tolerance: 10%; Packaging: Tape and Reel; Package Quantity: 1; Voltage Rating (DC): 50V; Termination: SMD/SMT; Series: GRM; Dielectric: X7R; Construction: Flat; Voltage: 50V; Length: 2mm; Width: 0.049inch; Height: 1.25mm; Depth: 1.25mm; Thickness: 0.053inch; Radiation Hardening: No; RoHS Compliant: Yes; Reach SVHC Compliant: Yes; Lead Free: Lead Free; ComponentLink1URL: https://datasheet.ciiva.com/22774/1747475-22774409.pdf?src-supplier=Farnell; ComponentLink1Description: https://datasheet.ciiva.com/22774/1747475-22774409.pdf?src-supplier=Farnell; ComponentLink2URL: https://datasheet.ciiva.com/28659/1684872-28659460.pdf?src-supplier=Element14; ComponentLink2Description: https://datasheet.ciiva.com/28659/1684872-28659460.pdf?src-supplier=Element14; ComponentLink3URL: https://datasheet.ciiva.com/139/grm21br71h105ka12-139467.pdf?src-supplier=Digi-Key; ComponentLink3Description: https://datasheet.ciiva.com/139/grm21br71h105ka12-139467.pdf?src-supplier=Digi-Key; ComponentLink4URL: https://datasheet.ciiva.com/3777/8166grm21br71h105ka1223-3777308.pdf?src-supplier=Arrow+Electronics; ComponentLink4Description: https://datasheet.ciiva.com/3777/8166grm21br71h105ka1223-3777308.pdf?src-supplier=Arrow+Electronics; ComponentLink5URL: https://datasheet.ciiva.com/29202/450841-da-01-de-vs-chip-kond-0805-1-0-uf-10pr-50-0v-x7r-29202833.pdf?src-supplier=Conrad; ComponentLink5Description: https://datasheet.ciiva.com/29202/450841-da-01-de-vs-chip-kond-0805-1-0-uf-10pr-50-0v-x7r-29202833.pdf?src-supplier=Conrad; ComponentLink6URL: https://datasheet.ciiva.com/29199/454791-da-01-en-vs-kondensator-0805-29199539.pdf?src-supplier=Conrad; ComponentLink6Description: https://datasheet.ciiva.com/29199/454791-da-01-en-vs-kondensator-0805-29199539.pdf?src-supplier=Conrad; ComponentLink7URL: https://datasheet.ciiva.com/22774/608985-22774412.pdf?src-supplier=Farnell; ComponentLink7Description: https://datasheet.ciiva.com/22774/608985-22774412.pdf?src-supplier=Farnell; ComponentLink8URL: https://datasheet.ciiva.com/22774/608985-22774411.pdf?src-supplier=Farnell; ComponentLink8Description: https://datasheet.ciiva.com/22774/608985-22774411.pdf?src-supplier=Farnell; ComponentLink9URL: https://datasheet.ciiva.com/16199/product-16199127.pdf?src-supplier=Future+Electronics; ComponentLink9Description: https://datasheet.ciiva.com/16199/product-16199127.pdf?src-supplier=Future+Electronics
footprint C0805
pins: 1, 2

## HNB09A03
designator B?
Buzzer; Manufacturer: Jiangsu Huaneng Elec; Manufacturer Part Number: HNB09A03; RoHS: No; Supplier Part Number 1: C96102; Supplier 1: LCSC
footprint Buzzer_HNB09A03
pins: 1  1, 2
text: +

## Ipex
designator J?, comment SMA/RF
Antenna Ceramic Monopole 4dB Gain 2483.5MHz SMD; Manufacturer: Pulse; Manufacturer Part Number: W3043; Max Frequency: 2.4835GHz; Number of Bands: 2; Return Loss: -12dB; Impedance: 50R; ComponentLink1Description: New link; ComponentLink1URL: *; RoHS: Yes; Category: RF Antennas; Stock 1: 1794; Pricing 1: 1=1.59000, 10=1.43100, 25=1.35000, 100=1.15020, 250=1.08000, 500=0.94500, 1000=0.78300 (USD); Mount: Surface Mount; Case/Package: SMD/SMT; Min Operating Temperature: -40°C; Max Operating Temperature: 85°C; Packaging: Bulk; Package Quantity: 3000; Termination: Solder; Resistor Type: Ceramic; Length: 1.6mm; Width: 3.2mm; Height: 0.043inch; ComponentLink2URL: https://datasheet.ciiva.com/8153/+w3043-8153043.pdf?src-supplier=Avnet; ComponentLink2Description: https://datasheet.ciiva.com/8153/+w3043-8153043.pdf?src-supplier=Avnet; ComponentLink3URL: https://datasheet.ciiva.com/15329/268317-15329727.pdf?src-supplier=Mouser; ComponentLink3Description: https://datasheet.ciiva.com/15329/268317-15329727.pdf?src-supplier=Mouser; ComponentLink4URL: https://datasheet.ciiva.com/2792/+w3043-2792612.pdf?src-supplier=Digi-Key; ComponentLink4Description: https://datasheet.ciiva.com/2792/+w3043-2792612.pdf?src-supplier=Digi-Key
footprint IPEX_20579-001E
pins: 1 SIGNAL, G1 GROUND, G2 GROUND, G3 GROUND

## IR2110
designator U?  Supplier 1: Digi-Key  Supplier Part Number 1: LT1158IN#PBF-ND
MOSFET Driver 0.5A 2 Output Hi/Lo Side Full Bridge/Half Bridge 16-Pin Plastic Dip N; Manufacturer: Analog Devices / Linear Technology; Manufacturer Part Number: LT1158IN#PBF; Number of Outputs: 2; Min Supply Voltage: 5V; Max Supply Voltage: 30V; Max Output Current: 500mA; Fall Time: 250ns; Turn-Off Delay Time: 550ns; Max Supply Current: 18mA; Operating Supply Voltage: 12V; RoHS: Yes; Category: Gate Drivers; Stock 1: 162; Pricing 1: 1=11.63000, 10=10.50600, 25=10.01760, 100=8.69810, 250=8.30720, 500=7.57424, 1000=6.91500 (USD); Case/Package: N; Number of Pins: 16; Min Operating Temperature: -40°C; Max Operating Temperature: 85°C; Number of Drivers: 2; Packaging: Rail/Tube; Package Quantity: 25; Rise Time: 250ns; Series: -; Length: 19.56mm; Width: 6.48mm; Height: 3.3mm; Radiation Hardening: No; RoHS Compliant: Yes; Lead Free: Lead Free; ComponentLink1URL: https://datasheet.ciiva.com/15110/getdatasheetpartid-447112-15110357.pdf?src-supplier=Verical; ComponentLink1Description: https://datasheet.ciiva.com/15110/getdatasheetpartid-447112-15110357.pdf?src-supplier=Verical; ComponentLink2URL: https://datasheet.ciiva.com/19456/1731817-19456187.pdf?src-supplier=Jameco; ComponentLink2Description: https://datasheet.ciiva.com/19456/1731817-19456187.pdf?src-supplier=Jameco; ComponentLink3URL: https://datasheet.ciiva.com/1952/2064-1952003.pdf?src-supplier=Digi-Key; ComponentLink3Description: https://datasheet.ciiva.com/1952/2064-1952003.pdf?src-supplier=Digi-Key
footprint DIP14_7.62mm
pins: 1 LO, 2 COM, 3 VCC, 4 NC, 5 VS, 6 VB, 7 HO, 8 NC, 9 VDD, 10 HIN, 11 SD, 12 LIN, 13 VSS, 14 NC

## IRFZ44NPBF
designator Q?
MOSFET, Power; N-Ch; VDSS 55V; RDS(ON) 17.5 Milliohms; ID 49A; TO-220AB; PD 94W; -55deg; Manufacturer: Infineon; Gate to Source Voltage (Vgs): 20V; Rise Time: 60ns; Turn-Off Delay Time: 44ns; Turn-On Delay Time: 12ns; Rds On Max: 17.5mR; Input Capacitance: 1.47nF; Element Configuration: Single; Threshold Voltage: 4V; Manufacturer Part Number: IRFZ44NPBF; RoHS: Yes; Category: MOSFETs; Stock 1: 17449; Pricing 1: 1=1.58000, 10=1.41400, 100=1.10210, 500=0.91040, 1000=0.71874, 2000=0.69878 (USD); Mount: Through Hole; Case/Package: TO-220; Number of Pins: 3; Contact Plating: Tin,Matte; Min Operating Temperature: -55°C; Max Operating Temperature: 175°C; Continuous Drain Current (ID): 49A; Power Dissipation: 94W; Packaging: Rail/Tube; Drain to Source Voltage (Vdss): 55V; Max Power Dissipation: 94W; Drain to Source Resistance: 17.5mR; Drain to Source Breakdown Voltage: 55V; Max Dual Supply Voltage: 55V; Length: 0.42inch; Width: 0.19inch; Height: 0.65inch; RoHS Compliant: Yes; REACH SVHC: No SVHC; Lead Free: Lead Free; Halogen Free: Halogen Free; ComponentLink1URL: https://www.alliedelec.com/m/d/ec90d67249a68ee89112b87fffe18402.pdf?src-supplier=Allied+Electronics; ComponentLink1Description: https://www.alliedelec.com/m/d/ec90d67249a68ee89112b87fffe18402.pdf?src-supplier=Allied+Electronics; ComponentLink2URL: http://www.farnell.com/datasheets/1916237.pdf?src-supplier=Element14; ComponentLink2Description: http://www.farnell.com/datasheets/1916237.pdf?src-supplier=Element14; Supplier 1: Digi-Key; Supplier Part Number 1: IRFZ44NPBF-ND
footprint IRFZ44N
pins: 1, 2, 3

## L1210R2R2MDWIT
designator L?, comment 2U2/2A
Inductor RF Chip Wirewound 2.2uH 20% 100KHz 1.13A 0.104Ohm DCR 1210 T/R; Manufacturer: KEMET; Manufacturer Part Number: L1210R2R2MDWIT; Core Material: Ferrite; Max DC Current: 2A; Shielding: Unshielded; Self Resonant Frequency: 190MHz; DC Resistance (DCR): 80mR; Supplier 1: Digi-Key; RoHS: Yes; Category: Fixed Inductors; Stock 1: 11928; Pricing 1: 1=0.50000, 10=0.43700, 25=0.40600, 50=0.34360, 100=0.31240, 250=0.29364, 500=0.26240 (USD); Mount: Surface Mount; Case/Package: 1210; Case Code (Metric): 3225; Case Code (Imperial): 1210; Min Operating Temperature: -40°C; Max Operating Temperature: 105°C; Tolerance: 20%; Inductance: 2.2uH; Package Quantity: 1000; Current Rating: 2A; Packaging: Tape and Reel; Inductance Tolerance: 20%; Resistor Type: Wirewound,Ceramic; Test Frequency: 100kHz; Termination: SMD/SMT; DC Current: 1.13A; Series: L-DWI; Length: 0.126inch; Width: 0.098inch; Height: 2.5mm; Height - Seated (Max): 0.106inch; Depth: 2.7mm; Radiation Hardening: No; REACH SVHC: No SVHC; Military Standard: Not; RoHS Compliant: Yes; ComponentLink1URL: https://datasheet.ciiva.com/4957/f3115-4957838.pdf?src-supplier=Mouser; ComponentLink1Description: https://datasheet.ciiva.com/4957/f3115-4957838.pdf?src-supplier=Mouser; ComponentLink2URL: https://datasheet.ciiva.com/6691/f3115-6691487.pdf?src-supplier=Digi-Key; ComponentLink2Description: https://datasheet.ciiva.com/6691/f3115-6691487.pdf?src-supplier=Digi-Key; ComponentLink3URL: https://datasheet.ciiva.com/8512/f3115-8512543.pdf?src-supplier=Avnet; ComponentLink3Description: https://datasheet.ciiva.com/8512/f3115-8512543.pdf?src-supplier=Avnet; ComponentLink4URL: https://datasheet.ciiva.com/17280/f3115-17280270.pdf?src-supplier=Avnet+Europe; ComponentLink4Description: https://datasheet.ciiva.com/17280/f3115-17280270.pdf?src-supplier=Avnet+Europe; ComponentLink5URL: https://datasheet.ciiva.com/22685/27262-22685038.pdf?src-supplier=Element14; ComponentLink5Description: https://datasheet.ciiva.com/22685/27262-22685038.pdf?src-supplier=Element14; Supplier Part Number 1: 399-9598-1-ND
footprint CL_inductor
pins: 1, 2

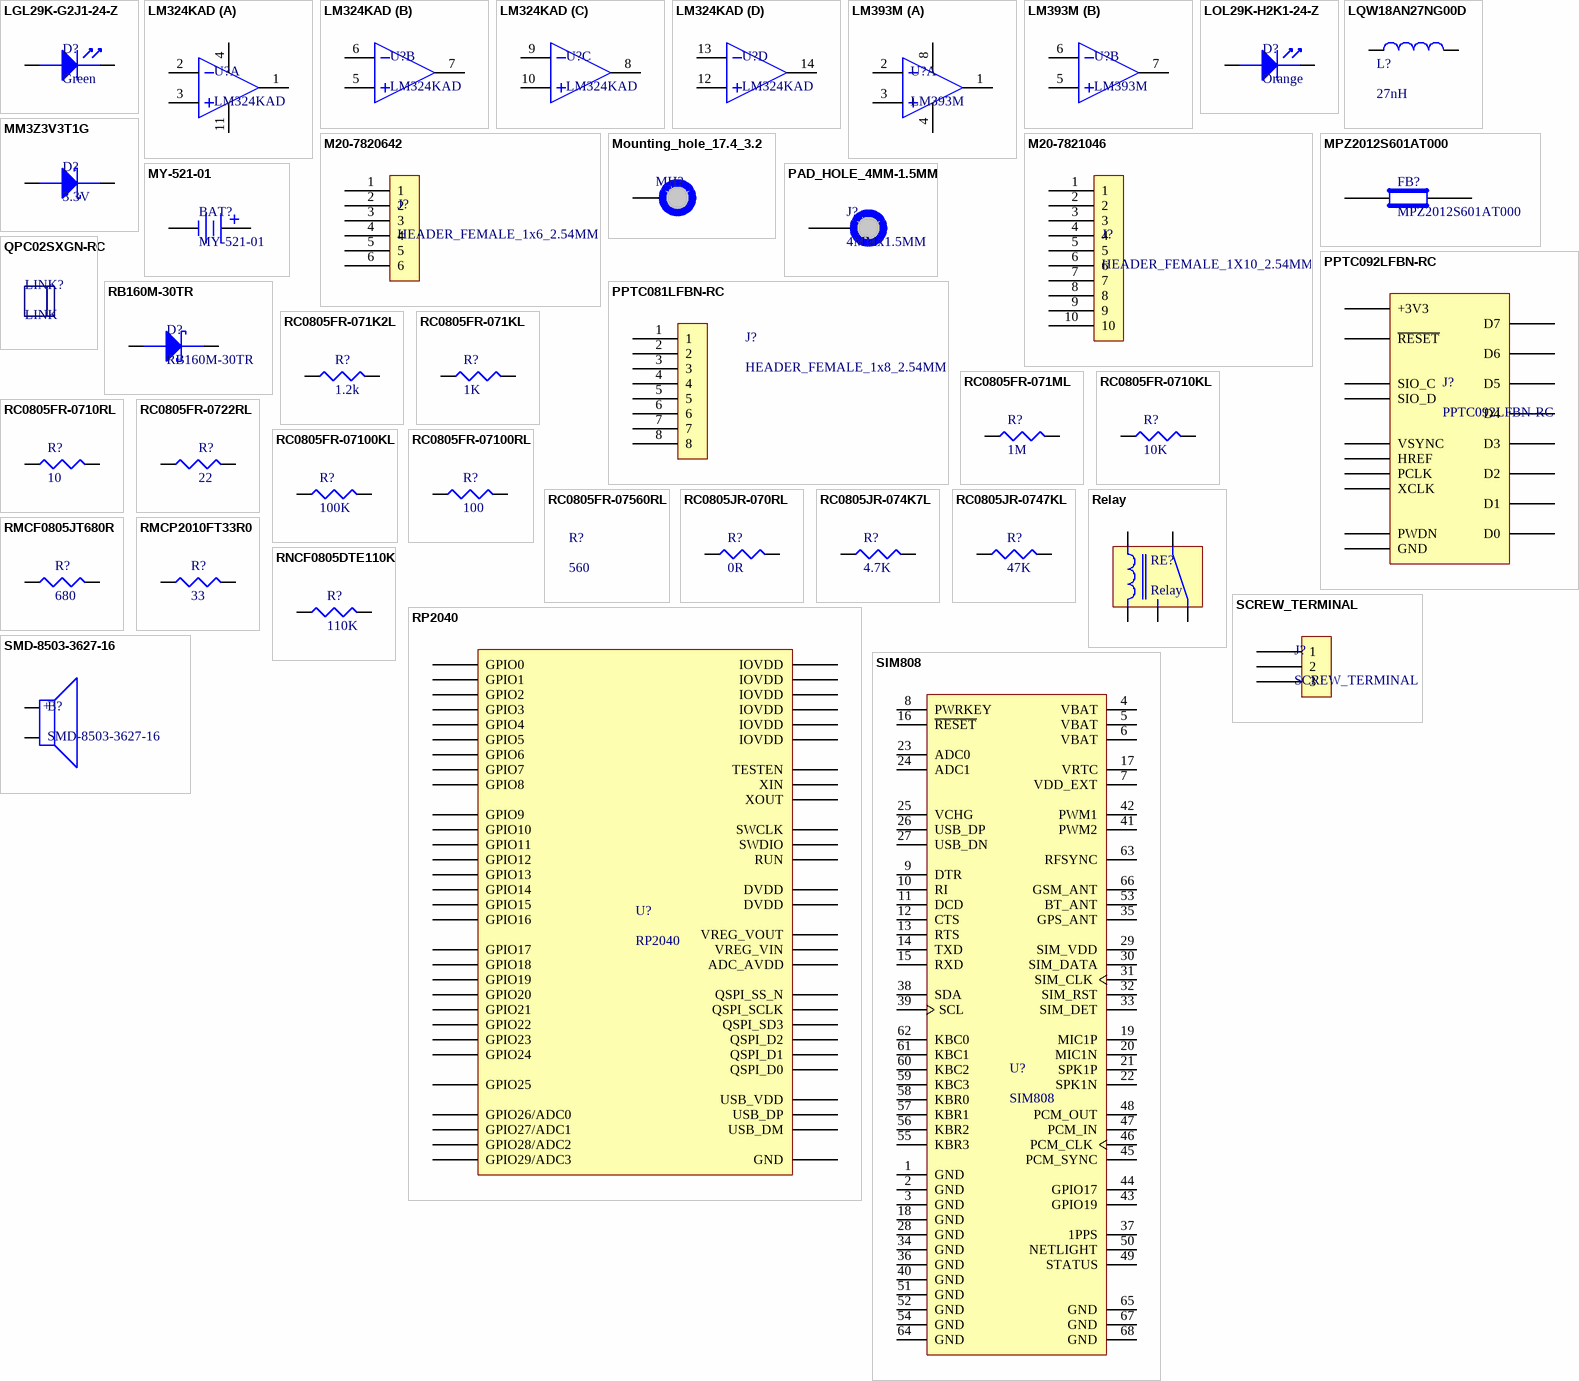
[diagram p2: symbols LGL29K-G2J1-24-Z to SMD-8503-3627-16]

## LGL29K-G2J1-24-Z
designator D?, comment Green
LED Single Chip Green 570nm 20mA 2-Pin 0603 T/R; Manufacturer: Osram Opto; Manufacturer Part Number: LGL29K-G2J1-24-Z; Lens Color: White; Forward Voltage: 2.2V; Luminous Intensity: 5.6mcd; Viewing Angle: 160°; Lens Style: Flat,Diffused,Colorless,Rectangular; Test Current: 2mA; Luminous Flux: 0.012lm; Number of LEDs: 1; Lens Transparency: Diffused; Reverse Voltage: 12V; Lens Size: 0.8mm; Supplier 1: Bison Technologies; RoHS: Yes; Category: LEDs; Stock 1: 60000; Mount: Surface Mount; Case/Package: 0603; Number of Pins: 2; Color: Green; Case Code (Metric): 1608; Case Code (Imperial): 0603; Min Operating Temperature: -40°C; Max Operating Temperature: 100°C; Illumination Color: Green; Forward Current: 20mA; Packaging: Tape and Reel; Package Quantity: 5000; Dominant Wavelength: 570nm; Number of Elements: 1; Series: SmartLED; Length: 1.3mm; Width: 0.8mm; Height: 0.65mm; Depth: 0.8mm; Radiation Hardening: No; RoHS Compliant: Yes; ComponentLink1URL: https://datasheet.ciiva.com/4689/g-l29k-39844-4689584.pdf?src-supplier=Mouser; ComponentLink1Description: https://datasheet.ciiva.com/4689/g-l29k-39844-4689584.pdf?src-supplier=Mouser; ComponentLink2URL: https://datasheet.ciiva.com/15198/getdatasheetpartid-571127-15198411.pdf?src-supplier=Verical; ComponentLink2Description: https://datasheet.ciiva.com/15198/getdatasheetpartid-571127-15198411.pdf?src-supplier=Verical; ComponentLink3URL: https://datasheet.ciiva.com/2112/00077107-0-2112887.pdf?src-supplier=Digi-Key; ComponentLink3Description: https://datasheet.ciiva.com/2112/00077107-0-2112887.pdf?src-supplier=Digi-Key; ComponentLink4URL: https://datasheet.ciiva.com/2112/00077107-0-2112886.pdf?src-supplier=Digi-Key; ComponentLink4Description: https://datasheet.ciiva.com/2112/00077107-0-2112886.pdf?src-supplier=Digi-Key; ComponentLink5URL: https://datasheet.ciiva.com/2112/00077107-0-2112888.pdf?src-supplier=Digi-Key; ComponentLink5Description: https://datasheet.ciiva.com/2112/00077107-0-2112888.pdf?src-supplier=Digi-Key; Supplier Part Number 1: LGL29K-G2J1-24-Z-299157-OSRAMOPTO
footprint LED0603
pins: 1 Ca, 2 An

## LM324KAD
designator U?
Quadruple improved offset and ESD protection operational amplifier 14-SOIC 0 to 70; Manufacturer: Texas Instruments; Number of Channels: 4; Gain Bandwidth Product: 1.2MHz; Min Dual Supply Voltage: 1.5V; Max Supply Voltage: 32V; Voltage Gain: 100dB; Min Supply Voltage: 3V; Max Dual Supply Voltage: 16V; Common Mode Rejection Ratio: 65dB; Output Current: 30mA; Slew Rate: 0.5V/µs; Nominal Supply Current: 3mA; Input Bias Current: 100nA; Input Offset Voltage (Vos): 3mV; Operating Supply Current: 1.4mA; Output Current per Channel: 40mA; Amplifier Type: GENERAL PURPOSE; Manufacturer Part Number: LM324KAD; RoHS: Yes; Category: Amplifiers - Op Amps, Buffer, Instrumentation; Stock 1: 2616; Pricing 1: 1=1.14000, 10=1.01600, 25=0.96480, 100=0.79240, 250=0.74068, 500=0.65456, 1000=0.52000 (USD); Mount: Surface Mount; Case/Package: SOIC; Number of Pins: 14; Min Operating Temperature: 0°C; Max Operating Temperature: 70°C; Packaging: Rail/Tube; Number of Circuits: 4; Bandwidth: 1.2MHz; Package Quantity: 50; Operating Supply Voltage: 16V; Supply Current: 3mA; Technology: BIPOLAR; Unity Gain Bandwidth Product: 1.2MHz; Number of Elements: 4; Series: -; Radiation Hardening: No; Lead Free: Lead Free; RoHS Compliant: Yes; ComponentLink1URL: https://datasheet.ciiva.com/6630/lm224-6630895.pdf?src-supplier=Digi-Key; ComponentLink1Description: https://datasheet.ciiva.com/6630/lm224-6630895.pdf?src-supplier=Digi-Key; Supplier 1: Digi-Key; Supplier Part Number 1: 296-33314-5-ND
footprint SOIC14
part A pins: 1, 2, 3, 4 VCC, 11 GND
part B pins: 5, 6, 7
part C pins: 8, 9, 10
part D pins: 12, 13, 14

## LM393M
designator U?
Comparator General Purpose CMOS, DTL, ECL, MOS, Open-Collector, TTL 8-SOIC; Manufacturer: TI National Semiconductor; Max Supply Voltage: 36V; Min Dual Supply Voltage: 1V; Max Dual Supply Voltage: 18V; Number of Elements: 2; Input Offset Voltage (Vos): 5mV; Min Supply Voltage: 2V; Voltage Gain: 106.02dB; Nominal Supply Current: 1mA; Input Bias Current: 250nA; Quiescent Current: 2.5mA; Response Time: 1.3us; Output Current: 16mA; Power Dissipation: 510mW; Propagation Delay: 700ns; Manufacturer Part Number: LM393M; RoHS: No; Category: Amplifiers - Op Amps, Buffer, Instrumentation; Stock 1: 43003; Pricing 1: 1=1.30000, 10=1.16000, 25=1.10120, 100=0.90450, 250=0.84552, 500=0.74720, 1000=0.59360 (USD); Mount: Surface Mount; Case/Package: SOIC; Number of Pins: 8; Min Operating Temperature: 0°C; Max Operating Temperature: 70°C; Packaging: Rail/Tube; Package Quantity: 95; Number of Channels: 2; Output Type: TTL; Max Supply Current: 1mA; Type: General Purpose; Max Input Current: 250nA; Series: LM393-N; Supply Current: 1mA; Technology: BIPOLAR; Max Power Dissipation: 510mW; Output Compatibility: CMOS; Termination: SMD/SMT; Radiation Hardening: No; RoHS Compliant: No; Lead Free: Lead Free; REACH SVHC: No SVHC; ComponentLink1URL: https://datasheet.ciiva.com/27050/901159-27050769.pdf?src-supplier=Jameco; ComponentLink1Description: https://datasheet.ciiva.com/27050/901159-27050769.pdf?src-supplier=Jameco; ComponentLink2URL: https://datasheet.ciiva.com/8068/31847-8068343.pdf?src-supplier=Element14; ComponentLink2Description: https://datasheet.ciiva.com/8068/31847-8068343.pdf?src-supplier=Element14; ComponentLink3URL: https://datasheet.ciiva.com/6625/lm193-n-6625115.pdf?src-supplier=Digi-Key; ComponentLink3Description: https://datasheet.ciiva.com/6625/lm193-n-6625115.pdf?src-supplier=Digi-Key; Supplier 1: Digi-Key; Supplier Part Number 1: LM393M-ND
footprint SOIC-8
part A pins: 1, 2, 3, 4 GND, 8 VCC
part B pins: 5, 6, 7

## LOL29K-H2K1-24-Z
designator D?, comment Orange
Smartled Orange Lc; Manufacturer: Osram Opto; Manufacturer Part Number: LOL29K-H2K1-24-Z; Lens Color: White; Forward Current: 20mA; Forward Voltage: 2.2V; Luminous Intensity: 9mcd; Viewing Angle: 160°; Lens Style: Flat,Diffused,Colorless,Rectangular; Test Current: 2mA; Dominant Wavelength: 606nm; Luminous Flux: 0.025lm; Number of LEDs: 1; Lens Transparency: Diffused; Reverse Voltage: 12V; Lens Size: 0.8mm; Supplier 1: Arrow Electronics; RoHS: Yes; Category: Uncategorized; Mount: Surface Mount; Case/Package: 0603; Number of Pins: 2; Color: Orange; Case Code (Metric): 1608; Case Code (Imperial): 0603; Min Operating Temperature: -40°C; Max Operating Temperature: 100°C; Illumination Color: Orange; Packaging: Tape and Reel; Package Quantity: 5000; Number of Elements: 1; Series: SmartLED; Length: 1.3mm; Width: 0.8mm; Height: 0.65mm; Depth: 0.8mm; Radiation Hardening: No; RoHS Compliant: Yes; ComponentLink1URL: https://datasheet.ciiva.com/2112/00077105-0-2112905.pdf?src-supplier=Digi-Key; ComponentLink1Description: https://datasheet.ciiva.com/2112/00077105-0-2112905.pdf?src-supplier=Digi-Key; ComponentLink2URL: https://datasheet.ciiva.com/2112/00077105-0-2112904.pdf?src-supplier=Digi-Key; ComponentLink2Description: https://datasheet.ciiva.com/2112/00077105-0-2112904.pdf?src-supplier=Digi-Key; ComponentLink3URL: https://datasheet.ciiva.com/2112/00077105-0-2112906.pdf?src-supplier=Digi-Key; ComponentLink3Description: https://datasheet.ciiva.com/2112/00077105-0-2112906.pdf?src-supplier=Digi-Key; ComponentLink4URL: https://datasheet.ciiva.com/15198/getdatasheetpartid-693885-15198412.pdf?src-supplier=Verical; ComponentLink4Description: https://datasheet.ciiva.com/15198/getdatasheetpartid-693885-15198412.pdf?src-supplier=Verical; Supplier Part Number 1: LO L29K-H2K1-24-Z
footprint LED0603
pins: 1 Ca, 2 An